# Altium footprint library Components_2.PcbLib: 22 footprints (part 2 of 2)
Each footprint in its own frame and in the unit in brackets; x right, y up, seen from the top. Pads: shape width x height; smd on the part's side, far side on the other; paste and mask are expansions set on the pad; w line width, h text height; cw(c..) or ccw(c..) is an arc to the next point about the centre after c.
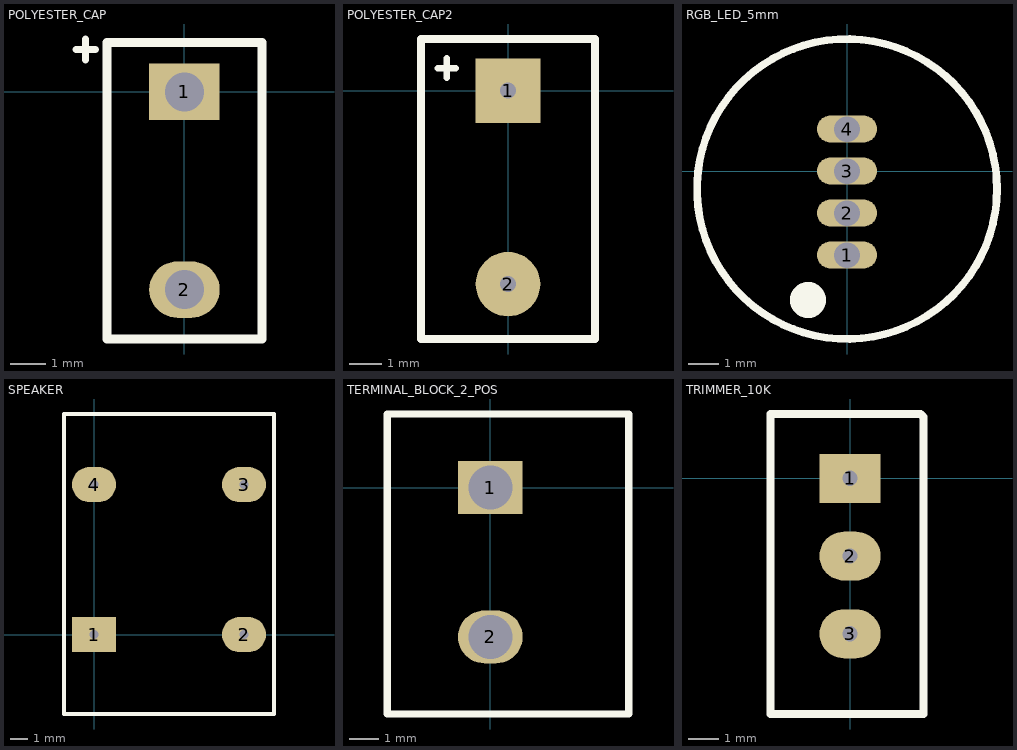
[diagram p1: the footprints below, top view; thin cyan lines are the x and y axes]

## POLYESTER_CAP [mm]
pads (2):
  rect 2x1.6 hole 1.1: 1(0,0)
  oval 2x1.6 hole 1.1: 2(0,-5.6)
Top Overlay:
  lines w0.2: -3.075,1.2 -2.525,1.2 ; -2.8,0.9 -2.8,1.5
  lines w0.254: -2.2,-7 2.2,-7 2.2,1.4 -2.2,1.4 -2.2,-7
3D body "User Library-Film Capacitor 6x8mm.step": height 13.67, standoff -3.31, extent -2,-6.8 2,1.2

## POLYESTER_CAP2 [mm]
pads (2):
  rect 2x2 hole 0.5: 1(0,0)
  round 2 hole 0.5: 2(0,-6)
Top Overlay:
  lines w0.2: -2.175,0.7 -1.625,0.7 ; -1.9,0.4 -1.9,1
  lines w0.254: -2.7,-7.7 -2.7,1.6 2.7,1.6 2.7,-7.7 -2.7,-7.7
3D body "EC 5x11 P2 D0.5.STEP": height 11, standoff -1.8, extent -2.5,-5.5 2.5,-0.5

## RGB_LED_5mm [mm]
pads (4):
  oval 2x0.9 hole 0.85: 1(0,-2.8) 2(0,-1.4) 3(0,0) 4(0,1.4)
Top Overlay:
  circle w0.254: c0,-0.6 r5
  circle w0.8: c-1.3,-4.3 r0.2
3D body "Led RGB 5mm.STEP": height 9.3, standoff -2.28, extent -2.9,-3.5 2.9,2.1

## SPEAKER [mm]
pads (4):
  rect 2.5x2 hole 0.5: 1(0,0)
  oval 2.5x2 hole 0.5: 2(8.5,0) 3(8.5,8.5) 4(0,8.5)
Top Overlay:
  lines w0.254: -1.7,-4.5 -1.7,12.5 10.2,12.5 10.2,-4.5 -1.7,-4.5
3D body "User Library-35RASMT4BHNTRX.STEP": height 5.5, standoff -0.5, extent 0,-4.2 9,14.8

## TERMINAL_BLOCK_2_POS [mm]
pads (2):
  rect 2.2x1.8 hole 1.5: 1(0,0)
  oval 2.2x1.8 hole 1.5: 2(0,-5.08)
Top Overlay:
  lines w0.254: -3.5,-7.7 4.7,-7.7 4.7,2.5 -3.5,2.5 -3.5,-7.7
3D body "User Library-TB2.STEP": height 10.5, standoff -3, extent -3.4,-7.6 4.6,2.4

## TRIMMER_10K [mm]
pads (3):
  rect 2x1.6 hole 0.5: 1(0,0)
  oval 2x1.6 hole 0.5: 2(0,-2.54) 3(0,-5.08)
Top Overlay:
  lines w0.254: -2.6,-7.7 -2.6,2.1 2.3,2.1 2.4,2 2.4,-7.7 -2.6,-7.7
3D body "trimmerpoti.SLDPRT": height 11.11, standoff -4.63, extent -2.53,-7.6 2.25,2.1